# Altium footprint library PCB - CONNECTOR - OST - OST OSTTE080161.PcbLib: 1 footprints
Each footprint in its own frame and in the unit in brackets; x right, y up, seen from the top. Pads: shape width x height; smd on the part's side, far side on the other; paste and mask are expansions set on the pad; w line width, h text height; cw(c..) or ccw(c..) is an arc to the next point about the centre after c.
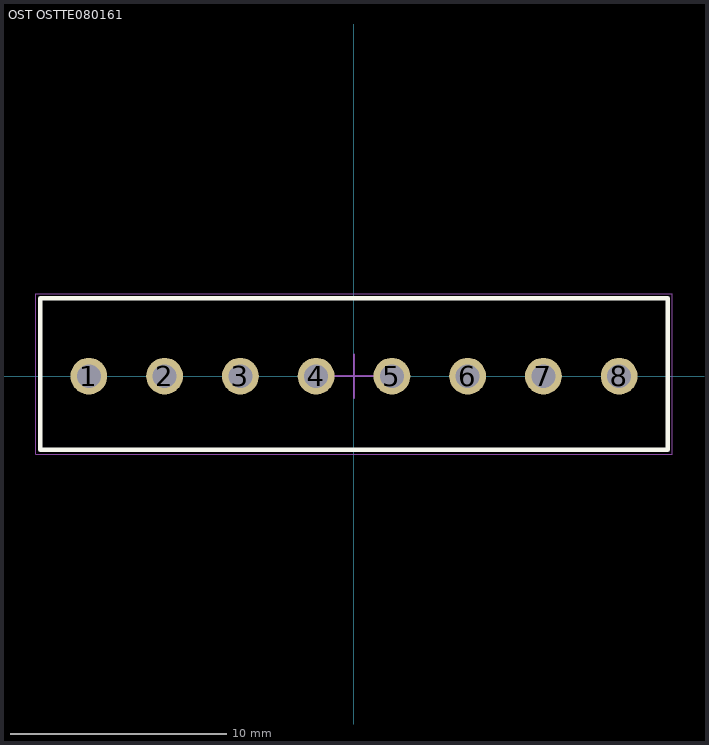
[diagram p0: the footprint, top view; thin cyan lines are the x and y axes]

## OST OSTTE080161 [mm] "Wire to Board Terminal Block Horizontal with Board Through Hole, 8 Position, 3.5mm Pitch, 29x7.0 mm Body"
height 8.4
pads (8):
  round 1.7 hole 1.1: 1(-12.25,0) 2(-8.75,0) 3(-5.25,0) 4(-1.75,0) 5(1.75,0) 6(5.25,0) 7(8.75,0) 8(12.25,0)
Top Overlay:
  lines w0.2: -14.5,-3.4 -14.5,3.6 14.5,3.6 14.5,-3.4 -14.5,-3.4
Mechanical 13:
  lines w0.1: -14.5,-3.4 -14.5,3.6 14.5,3.6 14.5,-3.4 -14.5,-3.4
Mechanical 15 (Mech15):
  lines w0.05: -14.7,-3.6 -14.7,3.8 14.7,3.8 14.7,-3.6 -14.7,-3.6
  lines w0.1: -1,0 0,0 ; 0,-1 0,0 ; 0,1 0,0 ; 1,0 0,0
3D body "OST - OSTTE080161 v4.step": height 8.7, standoff -3.32, extent -14.5,-3.4 14.5,3.6